# Altium footprint library Mouse Bites.PcbLib: 1 footprints
Each footprint in its own frame and in the unit in brackets; x right, y up, seen from the top. Pads: shape width x height; smd on the part's side, far side on the other; paste and mask are expansions set on the pad; w line width, h text height; cw(c..) or ccw(c..) is an arc to the next point about the centre after c.
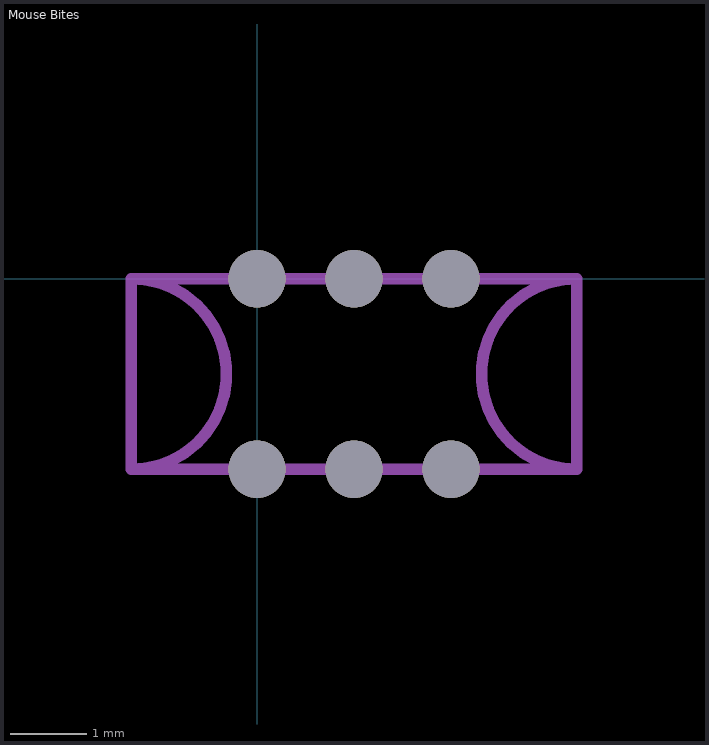
[diagram p0: the footprint, top view; thin cyan lines are the x and y axes]

## Mouse Bites [mm]
via 2.54,0 diameter 0.75 hole 0.75
via 1.27,0 diameter 0.75 hole 0.75
via 0,0 diameter 0.75 hole 0.75
via 0,-2.5 diameter 0.75 hole 0.75
via 1.27,-2.5 diameter 0.75 hole 0.75
via 2.54,-2.5 diameter 0.75 hole 0.75
Mechanical 1:
  lines w0.15: -1.651,-2.5 ccw(c-1.651,-1.25) -1.651,0 ; 4.191,-2.5 cw(c4.191,-1.25) 4.191,0
Mechanical 2:
  lines w0.15: -1.651,-2.5 4.191,-2.5 4.191,0 -1.651,0 -1.651,-2.5